# Altium schematic symbol library 2019-07-21_05-20-36.SchLib: 14 symbols
Pins are listed as number, name and electrical type; pins without a type are passive.

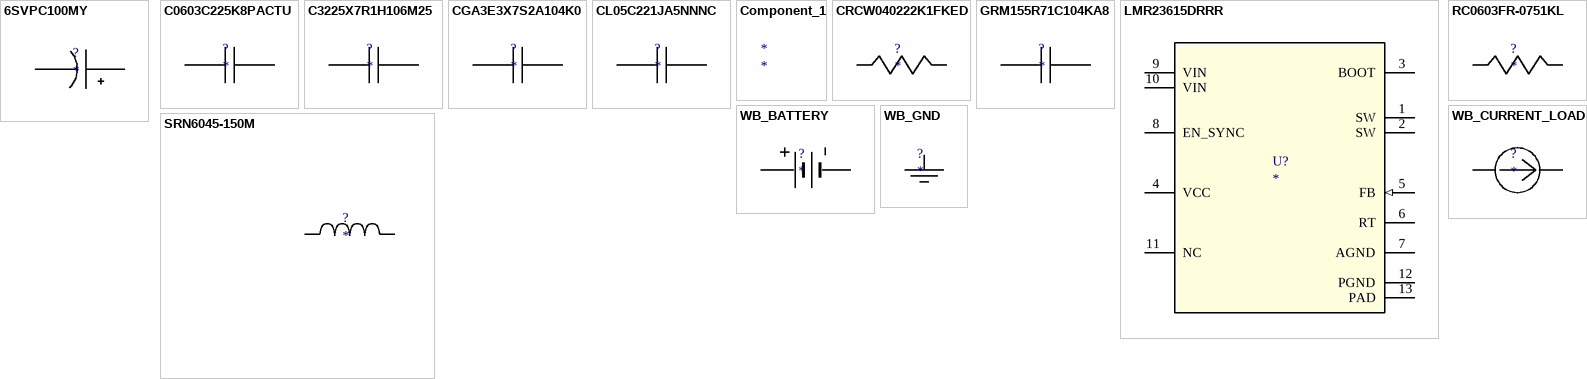
[diagram p0: symbols 6SVPC100MY to WB_GND]

## 6SVPC100MY
designator ?
Imported; Manufacturer_Part_Number: 6SVPC100MY; Vendor: Panasonic; Manufacturer_Name: Panasonic; RefDes: RefDes; TYPE: TYPE; Value: Value
footprint SM_RADIAL_5MM
pins: 1 +, 2 -

## C0603C225K8PACTU
designator ?
Imported; Manufacturer_Part_Number: C0603C225K8PACTU; Vendor: Kemet; Manufacturer_Name: Kemet; RefDes: RefDes; TYPE: TYPE; Value: Value
footprint 0603
pins: 1, 2

## C3225X7R1H106M25
designator ?
Imported; Manufacturer_Part_Number: C3225X7R1H106M250AC; Vendor: TDK; Manufacturer_Name: TDK; RefDes: RefDes; TYPE: TYPE; Value: Value
footprint 1210
pins: 1, 2

## CGA3E3X7S2A104K0
designator ?
Imported; Manufacturer_Part_Number: CGA3E3X7S2A104K080AB; Vendor: TDK; Manufacturer_Name: TDK; RefDes: RefDes; TYPE: TYPE; Value: Value
footprint 0603
pins: 1, 2

## CL05C221JA5NNNC
designator ?
Imported; Manufacturer_Part_Number: CL05C221JA5NNNC; Vendor: Samsung Electro-Mechanics; Manufacturer_Name: Samsung Electro-Mechanics; RefDes: RefDes; TYPE: TYPE; Value: Value
footprint 0402
pins: 1, 2

## Component_1
designator *

## CRCW040222K1FKED
designator ?
Imported; Manufacturer_Part_Number: CRCW040222K1FKED; Vendor: Vishay-Dale; Manufacturer_Name: Vishay-Dale; RefDes: RefDes; TYPE: TYPE; Value: Value
footprint 0402
pins: 1, 2

## GRM155R71C104KA8
designator ?
Imported; Manufacturer_Part_Number: GRM155R71C104KA88D; Vendor: MuRata; Manufacturer_Name: MuRata; RefDes: RefDes; TYPE: TYPE; Value: Value
footprint 0402
pins: 1, 2

## LMR23615DRRR
designator U?
Imported; PartNumber: LMR23615DRRR; Manufacturer: Texas Instruments; RefDes: RefDes; TYPE: TYPE; Value: Value; Manufacturer_Part_Number: LMR23615DRRR; Manufacturer_Name: Texas Instruments
footprint DRR0012D
pins: 1 SW (power), 2 SW (power), 3 BOOT (power), 4 VCC (power), 5 FB (in), 6 RT, 7 AGND (power), 8 EN_SYNC (power), 9 VIN (power), 10 VIN (power), 11 NC (power), 12 PGND (power), 13 PAD (power)

## RC0603FR-0751KL
designator ?
Imported; Manufacturer_Part_Number: RC0603FR-0751KL; Manufacturer_Name: Yageo; Vendor: Yageo America; RefDes: RefDes; TYPE: TYPE; Value: Value
footprint 0603
pins: 1, 2

## SRN6045-150M
designator ?
Imported; Manufacturer_Part_Number: SRN6045-150M; Vendor: Bourns; Manufacturer_Name: Bourns; RefDes: RefDes; TYPE: TYPE; Value: Value
footprint SRN6045
pins: 1, 2

## WB_BATTERY
designator ?
Imported; Manufacturer_Part_Number: WB_BATTERY; PowerPortType: POWER_GROUND; Value: Value; Manufacturer_Name: WB_BATTERY; RefDes: RefDes; TYPE: TYPE
pins: 1 +, 2 -

## WB_CURRENT_LOAD
designator ?
Imported; Manufacturer_Part_Number: WB_CURRENT_LOAD; PowerPortType: POWER_GROUND; Value: Value; Manufacturer_Name: WB_CURRENT_LOAD; RefDes: RefDes; TYPE: TYPE
pins: 1 +, 2 -

## WB_GND
designator ?
Imported; Manufacturer_Part_Number: WB_GND; PowerPortType: POWER_GROUND; Value: Value; Manufacturer_Name: WB_GND; RefDes: RefDes; TYPE: TYPE
pins: 1